# Altium schematic symbol library Schlib.SchLib: 87 symbols
Pins are listed as number, name and electrical type; pins without a type are passive.

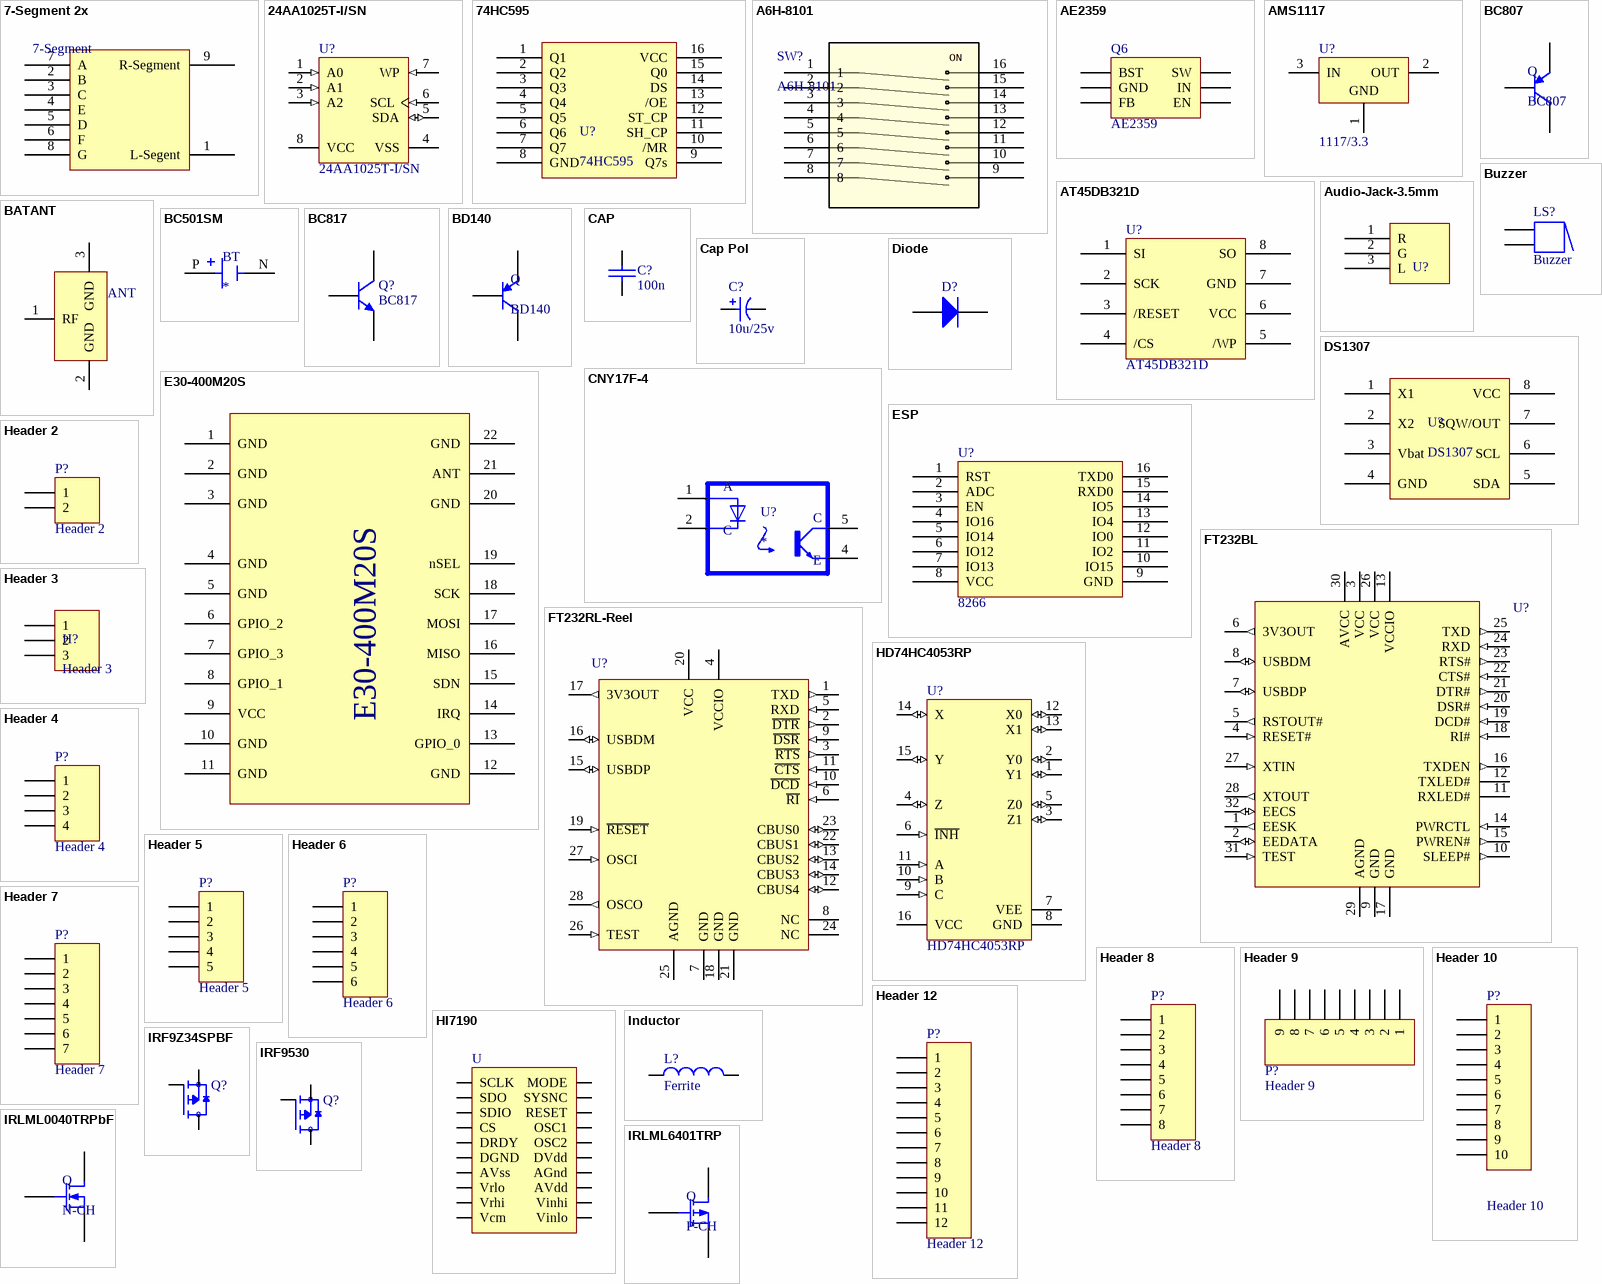
[diagram p0: symbols 7-Segment 2x to IRLML6401TRP]

## 7-Segment 2x
designator 7-Segment, comment 2x 7-Segment  (value not drawn)
footprint 7-Segment 2x
pins: 1 L-Segent, 2 B, 3 C, 4 E, 5 D, 6 F, 7 A, 8 G, 9 R-Segment

## 24AA1025T-I/SN
designator U?
1 Mbit, 400kHz, 1.7V, 8-Pin SOIC 150mil, Industrial Temperature, Tape and Reel; Published: 2-Dec-2009; DatasheetVersion: revF, Oct-2008; PackageVersion: revBB, Aug-2009; PackageReference: SOIC-SN8; Publisher: Altium Limited; PackageDescription: 8-Lead Plastic Small Outline (SN) - Narrow, 3.90mm Body [SOIC]; Supplier 1: Digi-Key; Supplier Part Number 1: 24AA1025T-I/SNTR-ND; Supplier 2: Digi-Key; Supplier Part Number 2: 24AA1025T-I/SNCT-ND; Supplier 3: Digi-Key; Supplier Part Number 3: 24AA1025T-I/SNDKR-ND; Code_JEDEC: MS-012; Code_IPC: SOIC127P600-8; ComponentLink1Description: Datasheet; ComponentLink1URL: http://ww1.microchip.com/downloads/en/DeviceDoc/21941F.pdf; ComponentLink2Description: Packaging Specification; ComponentLink2URL: http://www.microchip.com/stellent/groups/techpub_sg/documents/packagingspec/en012702.pdf; ComponentLink3Description: Microchip.com Home; ComponentLink3URL: http://www.microchip.com/
footprint SO8_M
pins: 1 A0 (in), 2 A1 (in), 3 A2 (in), 4 VSS (power), 5 SDA (io), 6 SCL (in), 7 WP (in), 8 VCC (power)

## 74HC595
designator U?
8-bit shift register
footprint SO-16_N (16-Pin Small Outline Integrated Circuit 1.27 mm Pitch, IPC Medium Density)
pins: 1 Q1, 2 Q2, 3 Q3, 4 Q4, 5 Q5, 6 Q6, 7 Q7, 8 GND, 9 Q7s, 10 /MR, 11 SH_CP, 12 ST_CP, 13 /OE, 14 DS, 15 Q0, 16 VCC

## A6H-8101
designator SW?
No Description Available; Manufacturer_Name: Omron; Copyright: Copyright (C) 2025 Ultra Librarian. All rights reserved.; Manufacturer_Part_Number: A6H-8101; RefDes: RefDes; Type: Type
footprint SW-8
pins: 1, 2, 3, 4, 5, 6, 7, 8, 9, 10, 11, 12, 13, 14, 15, 16
text: ON

## AE2359
designator Q6
Header, 3-Pin, Dual row; LatestRevisionDate: 17-Jul-2002; LatestRevisionNote: Re-released for DXP Platform.; Publisher: Altium Limited
footprint PRTR5V
pins: 1 BST, 2 GND, 3 FB, 4 EN, 5 IN, 6 SW

## AMS1117
designator U?, comment 1117/3.3
Positive-Voltage Regulator; Note: Pin 2 is electrically connected to TAB.; Published: 15-Apr-2002; DatasheetVersion: Jul-2000; PackageVersion: Oct-1994; PackageReference: PK03; Publisher: Altium Limited; PackageDescription: SOT-89; Body 4.6 x 4.25 mm, inc. leads (LxW max); Code_JEDEC: TO-243-AA; Code_IPC: SOT 89; ComponentLink1Description: Manufacturer Link; ComponentLink1URL: http://www.ti.com/; ComponentLink2Description: Datasheet; ComponentLink2URL: http://www-s.ti.com/sc/ds/ua78l05a.pdf
footprint SOT-223 (SOT223, 4-Leads, Body 6.50x7.00mm (avg), Pitch 2.30mm, IPC Medium Density)
pins: 1 GND (power), 2 OUT (power), 3 IN (power)

## AT45DB321D
designator U?
footprint SOIC-8 208MIL WIDE (SOIC, 8-Leads, Body 5.28x5.28mm, Pitch 1.27mm, IPC Medium Density)
pins: 1 SI, 2 SCK, 3 /RESET, 4 /CS, 5 /WP, 6 VCC, 7 GND, 8 SO

## Audio-Jack-3.5mm
designator U?
footprint microphone (simcard)
pins: 1 R, 2 G, 3 L

## BATANT
designator ANT, comment ANT  (value not drawn)
footprint SMA-KWE-M (Connector; RF Coaxial, MCX, Thru-Hole; 5 Position; Right-Angle)
footprint U.FL SMD Connector
pins: 1 RF, 2 GND, 3 GND

## BC501SM
designator BT
BATTERY HOLDER COIN 12MM SMD; MP: BC501SM; MF: MPD; Availability: Unavailable; SnapEDA_Link: https://www.snapeda.com/parts/BC501SM/MPD/view-part/4389112/?ref=snap; Price: None; Package: None; Value: *
footprint BAT_BC501SM
pins: N NEG, P POS

## BC807
designator Q
footprint SOT-23A_M
pins: 1 B, 2 E, 3 C

## BC817
designator Q?
NPN General-purpose Transistor; Published: 17-Sep-2003; LatestRevisionDate: 12-Dec-2006; LatestRevisionNote: IPC-7351 Footprint Added.; DatasheetVersion: Jun-1999; PackageVersion: May-1999; PackageReference: SOT23; Publisher: Altium Limited; PackageDescription: 3-Pin SOT-23 Package 0.95 mm Pitch, 2.3 mm Lead Span; ComponentLink1Description: Manufacturer Link; ComponentLink1URL: http://www.semiconductors.philips.com/; ComponentLink2Description: Datasheet; ComponentLink2URL: http://www.semiconductors.philips.com/acrobat/datasheets/BC817_BC817W_BC337_5.pdf
footprint SOT-23A_M (SOT23, 3-Leads, Body 2.9x1.3mm, Pitch 0.95mm, Lead Span 2.3mm, IPC Low Density)
pins: 1 B, 2 E, 3 C

## BD140
designator Q
footprint BD140
pins: 1 E, 2 C, 3 B

## Buzzer
designator LS?
Magnetic Transducer Buzzer; Published: 24-Mar-1999; LatestRevisionDate: 17-Dec-2003; LatestRevisionNote: Schematic revised, PCB Footprint replaced.; DatasheetVersion: 17-Dec-2003; PackageReference: ABSM-1574; Publisher: Altium Limited; PackageDescription: Magnetic Transducer Buzzer; ComponentLink1Description: Manufacturer Link; ComponentLink1URL: http://www.megastar.com/linecard/buzzmode/index.php
footprint buzzer - dip
pins: 1, 1A, 2, 2A
1 alternate drawing of the same symbol

## CAP
designator C?, comment 100n
Capacitor
footprint 805
footprint 1206
pins: 1, 2

## Cap Pol
designator C?, comment 10u/25v
Polarized Capacitor (Radial); Published: 8-Jun-2000; LatestRevisionDate: 17-Jul-2002; LatestRevisionNote: Re-released for DXP Platform.; PackageReference: RB7.6-15; Publisher: Altium Limited; Value: 10u/25v
footprint CAP SMD - 7*7-10*10
footprint CAP SMD_5*5
footprint CAP13
footprint CAP SMD (ABSM-1574)
footprint CAP tan (ABSM-1574)
pins: 1, 2
1 alternate drawing of the same symbol

## CNY17F-4
designator U?
MP: CNY17F-4; Package: None; Price: None; Value: *; Availability: Unavailable
footprint DIP-6
pins: 1 A, 2 C, 4 E, 5 C`

## Diode
designator D?
Default Diode; Published: 8-Jun-2000; LatestRevisionDate: 17-Jul-2002; LatestRevisionNote: Re-released for DXP Platform.; PackageVersion: Sep-1996; PackageReference: SMC; Publisher: Altium Limited; PackageDescription: DO-214-AB/SMC; 2 C-Bend Leads; Body 7.9 x 5.9 mm, inc. leads (LxW); Code_JEDEC: DO-214-AB
footprint SMA (Molded Diode, 2-Leads, Body 4.30x2.60mm, IPC Medium Density)
footprint SOD-80 MiniMELF (Molded Diode, 2-Leads, Body 3.40x1.50mm, IPC Medium Density)
footprint SOD-123 (SODFL, 2-Leads, Body 1.70x3.50mm, IPC Medium Density)
pins: 1 A, 2 K

## DS1307
designator U?
footprint SO8_M
pins: 1 X1, 2 X2, 3 Vbat, 4 GND, 5 SDA, 6 SCL, 7 SQW/OUT, 8 VCC

## E30-400M20S
designator U?, comment E49-900M20S  (value not drawn)
Manufacturer: EBYTE(亿佰特); Add into BOM: yes; Symbol: E49-900M20S; Device: E49-900M20S; LCSC Part Name: CMT2300A无线收发模块433m类CC1101/SI4432/SI4438数传模块; Supplier Part: C2965510; Manufacturer Part: E49-900M20S; Supplier Footprint: SMD,14x20mm; JLCPCB Part Class: Extended Part; Datasheet: https://atta.szlcsc.com/upload/public/pdf/source/20220120/C585D3888F759C1BC45E5BB801EA7BED.pdf; Supplier: LCSC; Convert to PCB: yes
footprint E30-400M20S
pins: 1 GND, 2 GND, 3 GND, 4 GND, 5 GND, 6 GPIO_2, 7 GPIO_3, 8 GPIO_1, 9 VCC, 10 GND, 11 GND, 12 GND, 13 GPIO_0, 14 IRQ, 15 SDN, 16 MISO, 17 MOSI, 18 SCK, 19 nSEL, 20 GND, 21 ANT, 22 GND

## ESP
designator U?, comment 8266
footprint *ESP-07S_ESP-07S(Primary)
pins: 1 RST, 2 ADC, 3 EN, 4 IO16, 5 IO14, 6 IO12, 7 IO13, 8 VCC, 9 GND, 10 IO15, 11 IO2, 12 IO0, 13 IO4, 14 IO5, 15 RXD0, 16 TXD0

## FT232BL
designator U?
USB UART Asynchronous Serial Data Transfer Chip, LQFP-32, Pb-Free; Published: 6-Oct-2005; LatestRevisionDate: 13-Apr-2006; LatestRevisionNote: IPC-7351 Footprint Added.; DatasheetVersion: ver 1.8, Dec-2005; PackageVersion: 2004; PackageReference: LQFP-32; Publisher: Altium Limited; PackageDescription: 32-Pin Thin Quad Flat Pack 0.8 mm Pitch; ComponentLink1Description: Manufacturer Link; ComponentLink1URL: http://www.ftdichip.com/Products/ICs/FT232B.htm; ComponentLink2Description: Datasheet; ComponentLink2URL: http://www.ftdichip.com/Support/Documents/DataSheets/ICs/DS_FT232BL.pdf
footprint LQFP-32_N (Thin QFP, 32-Leads, Body 7x7mm, Pitch 0.8mm, IPC Medium Density)
footprint LQFP-32_L (Thin QFP, 32-Leads, Body 7x7mm, Pitch 0.8mm, IPC High Density)
footprint LQFP-32_M (Thin QFP, 32-Leads, Body 7x7mm, Pitch 0.8mm, IPC Low Density)
pins: 1 EESK (out), 2 EEDATA (io), 3 VCC (power), 4 RESET# (in), 5 RSTOUT# (out), 6 3V3OUT (out), 7 USBDP (io), 8 USBDM (io), 9 GND (power), 10 SLEEP# (out), 11 RXLED# (oc), 12 TXLED# (oc), 13 VCCIO (power), 14 PWRCTL (in), 15 PWREN# (out), 16 TXDEN (out), 17 GND (power), 18 RI# (in), 19 DCD# (in), 20 DSR# (in), 21 DTR# (out), 22 CTS# (in), 23 RTS# (out), 24 RXD (in), 25 TXD (out), 26 VCC (power), 27 XTIN (in), 28 XTOUT (out), 29 AGND (power), 30 AVCC (power), 31 TEST (in), 32 EECS (io)

## FT232RL-Reel
designator U?
USB UART Asynchronous Serial Data Transfer Chip, SSOP-28, Tape and Reel; Published: 19-Aug-2010; DatasheetVersion: ver 2.07, Jul-2010; PackageVersion: 2010; PackageReference: SSOP-28; Publisher: Altium Limited; PackageDescription: 28-Pin Small Outline Package 0.65 mm Pitch; ComponentLink1Description: Manufacturer Link; ComponentLink1URL: http://www.ftdichip.com/Products/ICs/FT232R.htm; ComponentLink2Description: Datasheet; ComponentLink2URL: http://www.ftdichip.com/Support/Documents/DataSheets/ICs/DS_FT232R.pdf
footprint SSOP-28_N (SOP, 28-Leads, Body 10.2x5.3mm, Pitch 0.65mm, IPC Medium Density)
footprint SSOP-28_L (SOP, 28-Leads, Body 10.2x5.3mm, Pitch 0.65mm, IPC High Density)
footprint SSOP-28_M (SOP, 28-Leads, Body 10.2x5.3mm, Pitch 0.65mm, IPC Low Density)
pins: 1 TXD (out), 2 ~{DTR} (out), 3 ~{RTS} (out), 4 VCCIO (power), 5 RXD (in), 6 ~{RI} (in), 7 GND (power), 8 NC, 9 ~{DSR} (in), 10 ~{DCD} (in), 11 ~{CTS} (in), 12 CBUS4 (io), 13 CBUS2 (io), 14 CBUS3 (io), 15 USBDP (io), 16 USBDM (io), 17 3V3OUT (out), 18 GND (power), 19 ~{RESET} (in), 20 VCC (power), 21 GND (power), 22 CBUS1 (io), 23 CBUS0 (io), 24 NC, 25 AGND (power), 26 TEST (in), 27 OSCI (in), 28 OSCO (out)

## HD74HC4053RP
designator U?
Triple 2-Channel Analog Multiplexers / Demultiplexers; Published: 10-Feb-2010; DatasheetVersion: Rev.2.00, Mar-2006; PackageVersion: Sep-2005; PackageReference: PRSP0016DG-A; Publisher: Altium Limited; PackageDescription: 16-Pin Plastic Small Outline Integrated Circuit, 9.9 x 3.95 mm Body, 1.27 mm Pitch; Code_JEITA: P-SOP16-3.95x9.9-1.27; Code_IPC: SOIC127P600-16; ComponentLink1Description: Manufacturer Link; ComponentLink1URL: http://sg.renesas.com/fmwk.jsp?cnt=hd74hc_root.jsp&fp=/products/standard_ic/general_purpose_logic/5v_standard_logic/hd74hc/; ComponentLink2Description: Datasheet; ComponentLink2URL: http://documentation.renesas.com/eng/products/logic/rej03d0649_hd74hc4052_4053ds.pdf; ComponentLink3Description: Packaging Specification; ComponentLink3URL: http://sg.renesas.com/media/products/common_info/package/pdf/ic/code/prsp0016dg_a.pdf
footprint PRSP0016DG-A_N
footprint PRSP0016DG-A_L (SOIC, 16-Leads, Body 9.9x3.95mm, Pitch 1.27mm, IPC High Density)
footprint PRSP0016DG-A_M (SOIC, 16-Leads, Body 9.9x3.95mm, Pitch 1.27mm, IPC Low Density)
pins: 1 Y1 (io), 2 Y0 (io), 3 Z1 (io), 4 Z (io), 5 Z0 (io), 6 ~{INH} (in), 7 VEE (power), 8 GND (power), 9 C (in), 10 B (in), 11 A (in), 12 X0 (io), 13 X1 (io), 14 X (io), 15 Y (io), 16 VCC (power)

## Header 2
designator P?
Header, 2-Pin; LatestRevisionDate: 17-Jul-2002; LatestRevisionNote: Re-released for DXP Platform.; Publisher: Altium Limited
footprint JST B2B-PH-K
footprint JST XH B2B-XH-A
footprint HDR1X2
pins: 1, 2

## Header 3
designator H?
Header 3-pin
footprint HDR1X3
pins: 1, 2, 3

## Header 4
designator P?
Header, 4-Pin; LatestRevisionDate: 17-Jul-2002; LatestRevisionNote: Re-released for DXP Platform.; Publisher: Altium Limited
footprint JST XH B4B-XH-A
footprint JST B4B-PH-K
footprint JST XH B4B-XH-R
footprint HDR1X4
pins: 1, 2, 3, 4

## Header 5
designator P?
Header, 5-Pin; LatestRevisionDate: 17-Jul-2002; LatestRevisionNote: Re-released for DXP Platform.; Publisher: Altium Limited
footprint JST XH B5B-XH-A
footprint HDR1X5
pins: 1, 2, 3, 4, 5

## Header 6
designator P?
Header, 6-Pin; LatestRevisionDate: 17-Jul-2002; LatestRevisionNote: Re-released for DXP Platform.; Publisher: Altium Limited
footprint JST XH B6B-XH-A
footprint HDR1X6
pins: 1, 2, 3, 4, 5, 6

## Header 7
designator P?
Header, 7-Pin; LatestRevisionDate: 17-Jul-2002; LatestRevisionNote: Re-released for DXP Platform.; Publisher: Altium Limited
footprint HDR1X7
pins: 1, 2, 3, 4, 5, 6, 7

## Header 8
designator P?
Header, 8-Pin; LatestRevisionDate: 17-Jul-2002; LatestRevisionNote: Re-released for DXP Platform.; Publisher: Altium Limited
footprint JST XH B8B-XH-A
footprint HDR1X8
pins: 1, 2, 3, 4, 5, 6, 7, 8

## Header 9
designator P?
Header, 9-Pin; LatestRevisionDate: 17-Jul-2002; LatestRevisionNote: Re-released for DXP Platform.; Publisher: Altium Limited
footprint JST XH B9B-XH-A
footprint HDR1X9
pins: 1, 2, 3, 4, 5, 6, 7, 8, 9

## Header 10
designator P?
Header, 10-Pin; LatestRevisionDate: 17-Jul-2002; LatestRevisionNote: Re-released for DXP Platform.; Publisher: Altium Limited
footprint JST XH B10B-XH-A
footprint JST B10B-PH-K
footprint HDR1X10
pins: 1, 2, 3, 4, 5, 6, 7, 8, 9, 10

## Header 12
designator P?
Header, 12-Pin; LatestRevisionDate: 17-Jul-2002; LatestRevisionNote: Re-released for DXP Platform.; Publisher: Altium Limited
footprint HDR1X12
pins: 1, 2, 3, 4, 5, 6, 7, 8, 9, 10, 11, 12

## HI7190
designator U
pins: 1 SCLK, 2 SDO, 3 SDIO, 4 CS, 5 DRDY, 6 DGND, 7 AVss, 8 Vrlo, 9 Vrhi, 10 Vcm, 11 Vinlo, 12 Vinhi, 13 AVdd, 14 AGnd, 15 DVdd, 16 OSC2, 17 OSC1, 18 RESET, 19 SYSNC, 20 MODE

## Inductor
designator L?, comment Ferrite
Inductor; Code_IEC: 1005; Value: 10mH; Published: 8-Jun-2000; LatestRevisionDate: 29-May-2009; LatestRevisionNote: IPC-7351 Footprint Added.; PackageReference: 0402-A; Publisher: Altium Limited; PackageDescription: Chip Inductor; Code_JEITA: 0402
footprint INDUCTOR SMD (Inductor)
footprint INDUCTORSMD - DUP
footprint InductorSMD
footprint 1206
footprint 805
footprint Inductor 5 * 5 (Power Inductor, 2-Leads,Laird, TYS50402R2N-10)
footprint Inductor 4.5 * 4 (Power Inductor, 2-Leads, Bourns, SRN4018-220M)
footprint Inductor 3.5*3.5 (Power Inductors, 2 Leads, Bourns, SRN3015-2R2M)
footprint InductorSMD
pins: 1, 2

## IRF9Z34SPBF
designator Q?  (value not drawn)
P-Channel 60V 18A _Tc_ 3.7W _Ta_, 88W _Tc_ Surface Mount D2PAK; MF: Vishay; SnapEDA_Link: https://www.snapeda.com/parts/IRF9Z34SPBF/Vishay%20Siliconix/view-part/390212/?ref=snap; Price: None; MP: IRF9Z34SPBF; Value: *; Availability: Unavailable; Package: D2PAK Vishay
footprint D2PAK
pins: 1 G, 3 S, 4 D

## IRF9530
designator Q?  (value not drawn)
P-Channel 60V 18A _Tc_ 3.7W _Ta_, 88W _Tc_ Surface Mount D2PAK; MF: Vishay; MP: IRF9Z34SPBF; SnapEDA_Link: https://www.snapeda.com/parts/IRF9Z34SPBF/Vishay%20Siliconix/view-part/390212/?ref=snap; Price: None; Value: *; Availability: Unavailable; Package: D2PAK Vishay
footprint TO220
pins: 1 G, 2 D, 3 S

## IRLML0040TRPbF
designator Q, comment N-CH
footprint SOT-23A_M
pins: 1 G, 2 S, 3 D

## IRLML6401TRP
designator Q, comment P-CH
footprint SOT-23A_M
pins: 1 G, 2 S, 3 D

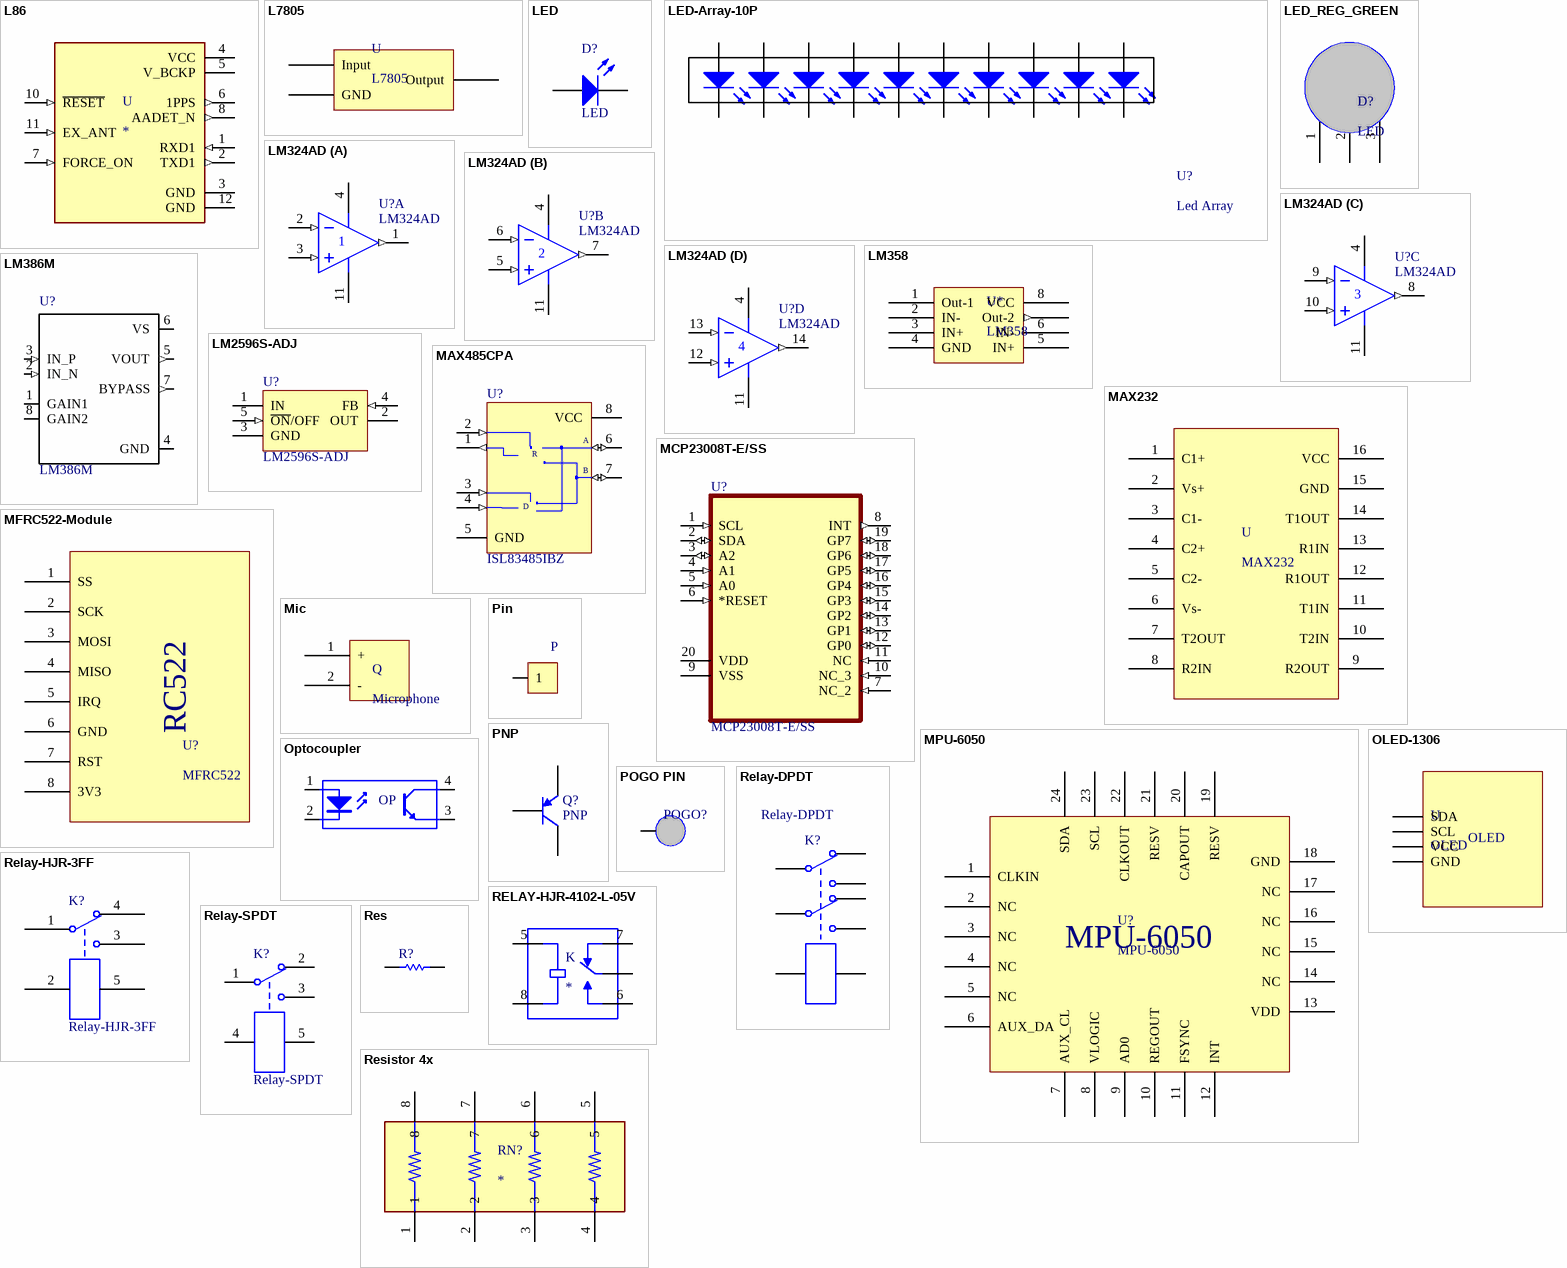
[diagram p1: symbols L86 to Resistor 4x]

## L86
designator U
L86 is an ultra-compact GNSS POT _Patch on Top_ module with an embedded 18.4mm Ã— 18.4mm Ã— 4.0mm patch antenna and utilizes the MediaTek new generation GNSS chipset MT3333 that achieves the perfect performance; MF: Quectel; Availability: Unavailable; SnapEDA_Link: https://www.snapeda.com/parts/L86/Quectel/view-part/4388456/?ref=snap; MP: L86; Price: None; Package: PowerSFN-8 Quectel; Value: *
footprint XCVR_L86
pins: 1 RXD1 (in), 2 TXD1 (out), 3 GND, 4 VCC (power), 5 V_BCKP (power), 6 1PPS (out), 7 FORCE_ON (in), 8 AADET_N (out), 10 ~{RESET} (in), 11 EX_ANT (in), 12 GND

## L7805
designator U
footprint TO220
pins: 1 Input, 2 GND, 3 Output

## LED
designator D?
Typical RED, GREEN, YELLOW, AMBER GaAs LED; Published: 8-Jun-2000; LatestRevisionDate: 17-Jul-2002; LatestRevisionNote: Re-released for DXP Platform.; PackageVersion: Feb-2002; PackageReference: 3.2X1.6X1.1; Publisher: Altium Limited; PackageDescription: SM LED; 2 Flat Leads
footprint LED 3mm 3D (Connector; Header; 2 Position)
footprint LED 0603_1608 GREEN (Chip Diode, 2-Leads, Body 1.60x0.80mm, IPC Medium Density)
footprint LED 0603_1608 RED (Chip Diode, 2-Leads, Body 1.60x0.80mm, IPC Medium Density)
footprint LED 0805_2012 BLUE (Chip Diode, 2-Leads, Body 2.00x1.25mm, IPC Medium Density)
pins: 1 A, 2 K

## LED-Array-10P
designator U?, comment Led Array
footprint LED-Array 10-Pin
pins: 1 A, 2 K, 3 A, 4 K, 5 A, 6 K, 7 A, 8 K, 9 A, 10 K, 11 A, 12 K, 13 A, 14 K, 15 A, 16 K, 17 A, 18 K, 19 A, 20 K

## LED_REG_GREEN
designator D?, comment LED
footprint LED_RED_GREEN
pins: 1 RED, 2 Common, 3 Green

## LM324AD
designator U?
Quad Low-Power Operational Amplifier; Published: 17-Jul-2002; LatestRevisionDate: 13-Apr-2006; LatestRevisionNote: IPC-7351 Footprint Added.; DatasheetVersion: 1988; PackageVersion: 1991; PackageReference: 751A-02; Publisher: Altium Limited; PackageDescription: 14-Pin Small Outline Integrated Circuit 1.27 mm Pitch; Code_IPC: SOIC127P600-14; ComponentLink1Description: Manufacturer Link; ComponentLink1URL: http://www.onsemi.com/site/products/parametrics/0,4446,251,00.html; ComponentLink2Description: Datasheet; ComponentLink2URL: http://www.onsemi.com/pub/Collateral/LM324-D.PDF
footprint SO-14_N (14-Pin Small Outline Integrated Circuit 1.27 mm Pitch, IPC Medium Density)
pins on every part: 4 V+ (power), 11 V- (power)
part A pins: 1 OUT (out), 2 IN- (in), 3 IN+ (in)
part B pins: 5 IN+ (in), 6 IN- (in), 7 OUT (out)
part C pins: 8 OUT (out), 9 IN- (in), 10 IN+ (in)
part D pins: 12 IN+ (in), 13 IN- (in), 14 OUT (out)

## LM358
designator U*
footprint SO8_M
pins: 1 Out-1, 2 IN-, 3 IN+, 4 GND, 5 IN+, 6 IN-, 7 Out-2 (out), 8 VCC

## LM386M
designator U?
MP: LM386M-1/NOPB; MF: Texas Instruments; Price: None; Package: SOIC-8 Texas Instruments; Availability: Unavailable; SnapEDA_Link: https://www.snapeda.com/parts/LM386M-1/NOPB/Texas%20Instruments/view-part/?ref=snap; Value: *
footprint SO8_M (SOIC, 8-Leads, Body 4.9x3.9mm, Pitch 1.27mm, IPC Low Density)
pins: 1 GAIN1, 2 IN_N (in), 3 IN_P (in), 4 GND (power), 5 VOUT (out), 6 VS (power), 7 BYPASS (out), 8 GAIN2

## LM2596S-ADJ
designator U?
Simple Switcher Power Converter 150 kHz 3A Step Down Voltage Regulator; Note: Tab is connected to GND; Published: 15-Apr-2002; DatasheetVersion: Dec-1997; PackageReference: TS5B; Publisher: Altium Limited; PackageDescription: D2-PAK; 5 Leads; Body 14.4 (inc. leads) x 10.4 mm (LxW max); ComponentLink1Description: Manufacturer Link; ComponentLink1URL: http://www.national.com/; ComponentLink2Description: Datasheet; ComponentLink2URL: http://www.national.com/ds.cgi/LM/LM2596.pdf; ComponentLink3Description: URL Link1; ComponentLink3URL: http://www.national.com/pf/LM/LM2596.html
footprint *TO263-5
pins: 1 IN (power), 2 OUT (power), 3 GND (power), 4 FB (in), 5 ~{ON}/OFF (in)

## MAX232
designator U
footprint SO-16_N (16-Pin Small Outline Integrated Circuit 1.27 mm Pitch, IPC Medium Density)
footprint DW016_L (16-Pin Plastic Small Outline Integrated Circuit 1.27 mm Pitch, IPC High Density)
pins: 1 C1+, 2 Vs+, 3 C1-, 4 C2+, 5 C2-, 6 Vs-, 7 T2OUT, 8 R2IN, 9 R2OUT, 10 T2IN, 11 T1IN, 12 R1OUT, 13 R1IN, 14 T1OUT, 15 GND, 16 VCC

## MAX485CPA
designator U?, comment ISL83485IBZ
Low-Power, Slew-Rate-Limited RS-485/RS-422 Transceiver; Published: 16-Jan-2001; LatestRevisionDate: 29-May-2009; LatestRevisionNote: Component Body Added.; DatasheetVersion: Feb-1996; PackageVersion: RevB, 21-0043; PackageReference: PA8; Publisher: Altium Limited; PackageDescription: DIP, 8-Pin, Row Spacing 7.62 mm, Pitch 2.54 mm; Code_JEDEC: MS-001-AB; ComponentLink1Description: Manufacturer Link; ComponentLink1URL: http://www.maxim-ic.com/; ComponentLink2Description: Datasheet; ComponentLink2URL: http://pdfserv.maxim-ic.com/en/ds/MAX1487-MAX491.pdf
footprint SO8_M
pins: 1 RO (out), 2 ~{RE} (in), 3 DE (in), 4 DI (in), 5 GND (power), 6 A (io), 7 B (io), 8 VCC (power)
text: R; D

## MCP23008T-E/SS
designator U?
I/O Expander 8 IÂ²C 1.7MHz 20-SSOP; MF: Microchip; Package: SSOP-20 Microchip; MP: MCP23008T-E/SS; Price: None; Availability: Unavailable; Value: *; SnapEDA_Link: https://www.snapeda.com/parts/MCP23008T-E/SS/Microchip/view-part/1222714/?ref=snap
footprint SSOP-20
pins: 1 SCL (in), 2 SDA (io), 3 A2 (io), 4 A1 (in), 5 A0 (in), 6 *RESET (in), 7 NC_2 (in), 8 INT (out), 9 VSS, 10 NC_3 (in), 11 NC (in), 12 GP0 (io), 13 GP1 (io), 14 GP2 (io), 15 GP3 (io), 16 GP4 (io), 17 GP5 (io), 18 GP6 (io), 19 GP7 (io), 20 VDD (power)

## MFRC522-Module
designator U?, comment MFRC522
footprint MFRC522-Module
pins: 1 SS, 2 SCK, 3 MOSI, 4 MISO, 5 IRQ, 6 GND, 7 RST, 8 3V3
text: RC522

## Mic
designator Q, comment Microphone
footprint Mic-2m
pins: 1 +, 2 -

## MPU-6050
designator U?
footprint MPU-6050 (QFN, 24-Leads, Body 4.00x4.00mm, Pitch 0.50mm, Thermal Pad 2.60x2.60mm, IPC Medium Density)
pins: 1 CLKIN, 2 NC, 3 NC, 4 NC, 5 NC, 6 AUX_DA, 7 AUX_CL, 8 VLOGIC, 9 AD0, 10 REGOUT, 11 FSYNC, 12 INT, 13 VDD, 14 NC, 15 NC, 16 NC, 17 NC, 18 GND, 19 RESV, 20 CAPOUT, 21 RESV, 22 CLKOUT, 23 SCL, 24 SDA

## OLED-1306
designator U, comment OLED
footprint OLED-1306-128x64
pins: 1 SDA, 2 SCL, 3 VCC, 4 GND

## Optocoupler
designator OP
4-Pin Phototransistor Optocoupler; Published: 24-Mar-1999; LatestRevisionDate: 04-Mar-2005; LatestRevisionNote: Sch pins 3 & 4 Swapped.; DatasheetVersion: Nov-2003; PackageReference: DIP-4; Publisher: Altium Limited
footprint OPTO 4-PIN DIP
pins: 1 A "Anode", 2 K "Cathode", 3 E "Emitter", 4 C "Collector"

## Pin
designator P  (value not drawn)
footprint Pin
pins: 1

## PNP
designator Q?
PNP Bipolar Transistor; Published: 8-Jun-2000; LatestRevisionDate: 29-May-2009; LatestRevisionNote: IPC-7351 Footprint Added.; PackageVersion: Aug-1999; PackageReference: SOT-23B; Publisher: Altium Limited; PackageDescription: 3-Pin SOT-23 Package 0.95 mm Pitch, 2.4 mm Lead Span
footprint SOT-23A_M
pins: 1 C, 2 B, 3 E

## POGO PIN
designator POGO?  (value not drawn)
footprint POGO PIN
pins: 1

## Relay-DPDT
designator K?
Dual-Pole Dual-Throw Relay; Published: 24-Mar-1999; LatestRevisionDate: 17-Jul-2002; LatestRevisionNote: Re-released for DXP Platform.; PackageReference: DIP-P8; Publisher: Altium Limited; PackageDescription: Relay; 8 Leads
footprint REL8
pins: 1, 2, 3, 4, 5, 6, 7, 8

## Relay-HJR-3FF
designator K?
Single-Pole Dual-Throw Relay; Published: 24-Mar-1999; LatestRevisionDate: 17-Jul-2002; LatestRevisionNote: Re-released for DXP Platform.; PackageReference: MODULE5B; Publisher: Altium Limited
footprint REL5
pins: 1, 2, 3, 4, 5

## RELAY-HJR-4102-L-05V
designator K
MP: HJR-4102-L-05V; MF: Tianbo; Value: *; SnapEDA_Link: https://www.snapeda.com/parts/HJR-4102-L-05V/Tianbo/view-part/3661977/?ref=snap; Availability: Unavailable; Package: Package; Price: None
footprint RELAY_HJR-4102-L-05V
pins: 1 COM, 5 COIL1, 6 NO, 7 NC, 8 COIL2, 12 COM

## Relay-SPDT
designator K?
Single-Pole Dual-Throw Relay; Published: 24-Mar-1999; LatestRevisionDate: 17-Jul-2002; LatestRevisionNote: Re-released for DXP Platform.; PackageReference: MODULE5B; Publisher: Altium Limited
footprint REL6
pins: 1, 2, 3, 4, 5

## Res
designator R?
Resistor; Value: 1K; Published: 8-Jun-2000; LatestRevisionDate: 17-Jul-2002; LatestRevisionNote: Re-released for DXP Platform.; PackageReference: AXIAL-0.3; Publisher: Altium Limited; PackageDescription: Axial Device, Thru-Hole; 2 Leads; 0.3 in Pin Spacing
footprint 805
footprint 1206
footprint 1812
footprint 1806
pins: 1, 2

## Resistor 4x
designator RN?
10k Ohm Â±1% 62.5mW Power Per Element Isolated Resistor Network/Array Â±200ppm/Â°C 1206 (3216 Metric), Concave, Long Side Terminals; MF: CTS Components; MP: 742C0831002FP; SnapEDA_Link: https://www.snapeda.com/parts/742C0831002FP/CTS%20Components/view-part/1388766/?ref=snap; Check_prices: https://www.snapeda.com/parts/742C0831002FP/CTS%20Components/view-part/1388766/?ref=eda; Availability: Bad; Value: *; Price: None; Package: 0603 CTS Components
footprint Array 4x 0603
pins: 1, 2, 3, 4, 5, 6, 7, 8

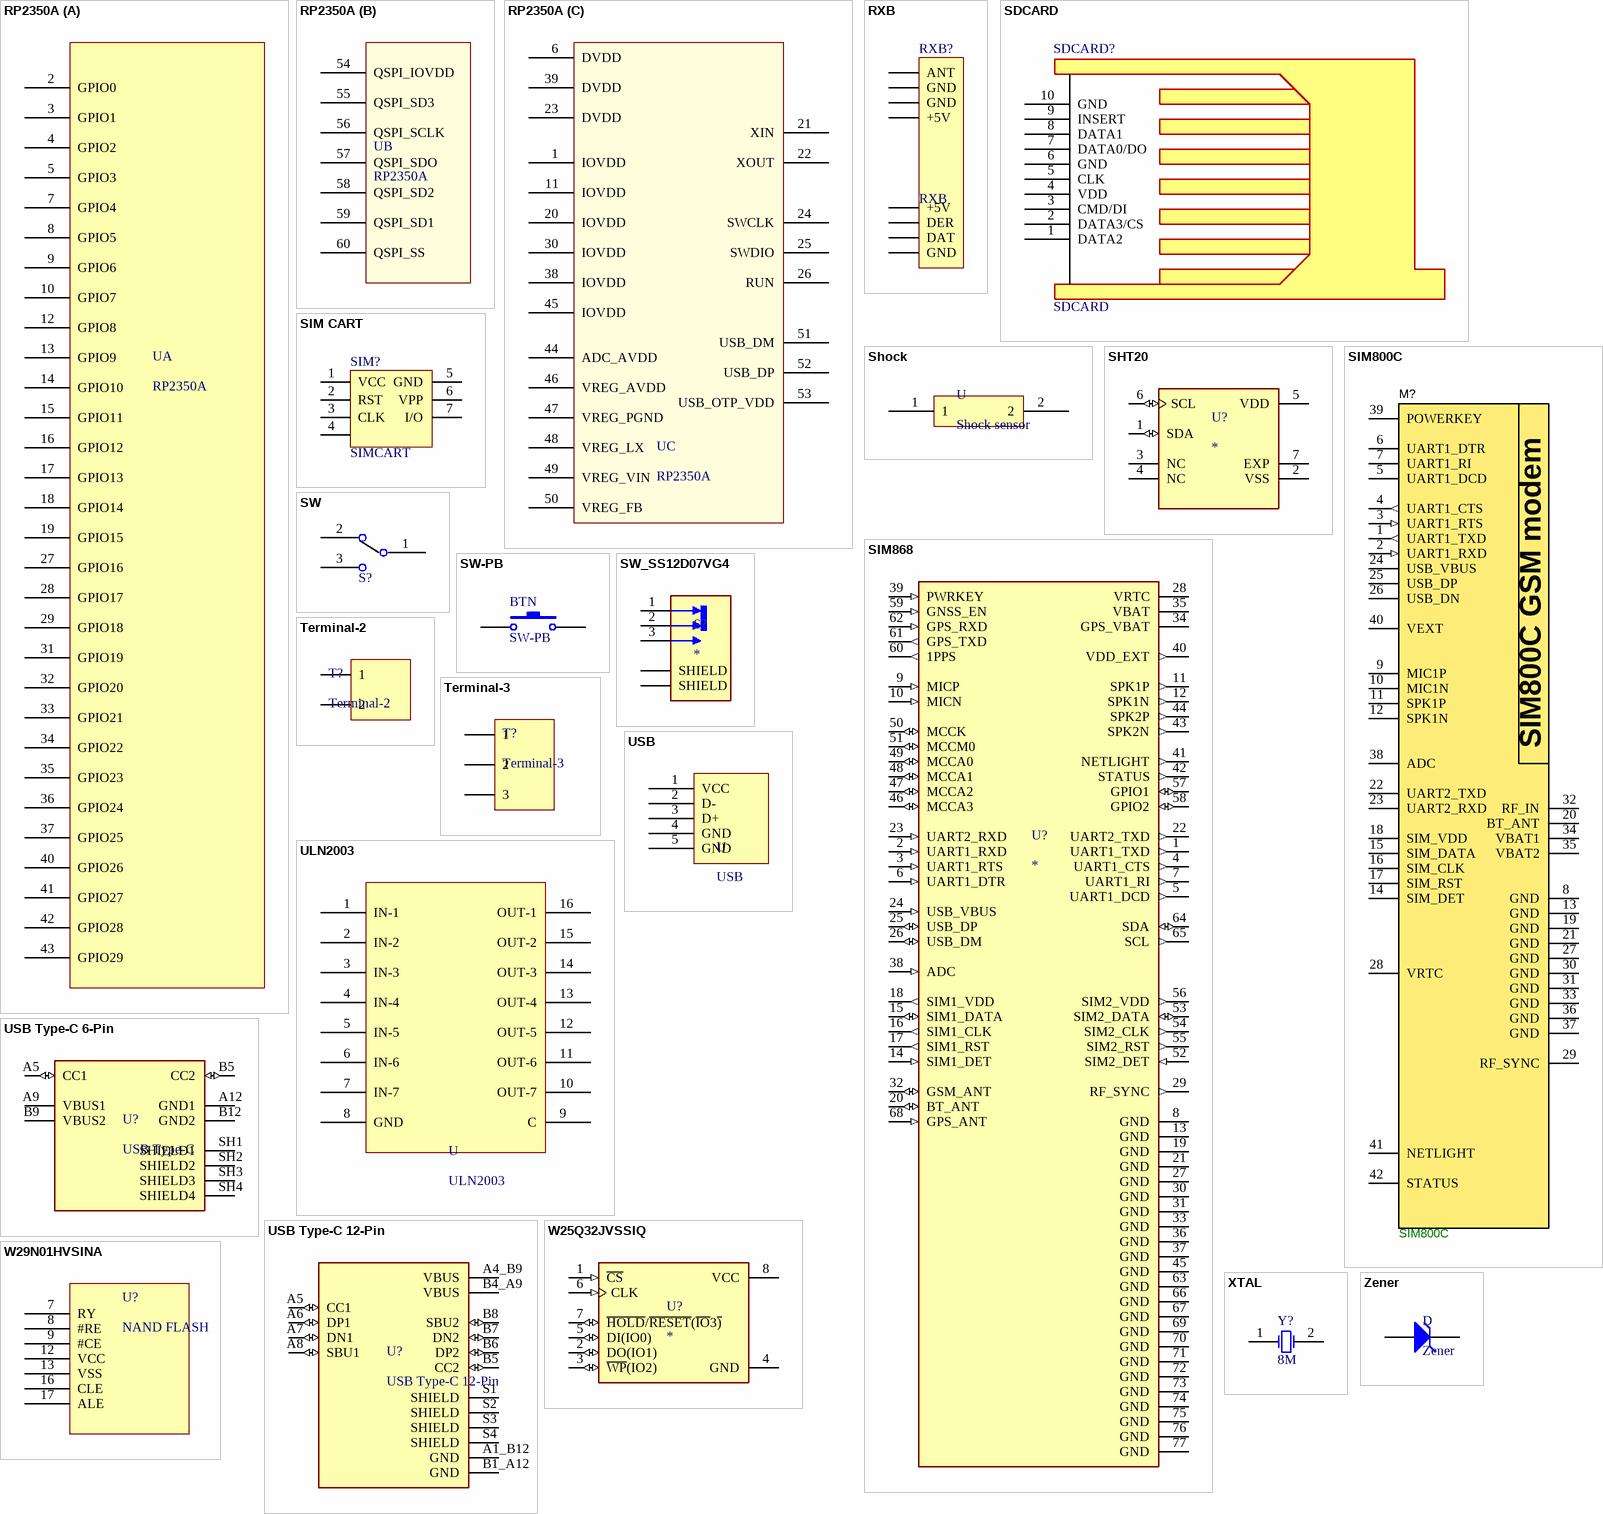
[diagram p2: symbols RP2350A to Zener]

## RP2350A
designator U
part A pins: 2 GPIO0, 3 GPIO1, 4 GPIO2, 5 GPIO3, 7 GPIO4, 8 GPIO5, 9 GPIO6, 10 GPIO7, 12 GPIO8, 13 GPIO9, 14 GPIO10, 15 GPIO11, 16 GPIO12, 17 GPIO13, 18 GPIO14, 19 GPIO15, 27 GPIO16, 28 GPIO17, 29 GPIO18, 31 GPIO19, 32 GPIO20, 33 GPIO21, 34 GPIO22, 35 GPIO23, 36 GPIO24, 37 GPIO25, 40 GPIO26, 41 GPIO27, 42 GPIO28, 43 GPIO29
part B pins: 54 QSPI_IOVDD, 55 QSPI_SD3, 56 QSPI_SCLK, 57 QSPI_SDO, 58 QSPI_SD2, 59 QSPI_SD1, 60 QSPI_SS
part C pins: 1 IOVDD, 6 DVDD, 11 IOVDD, 20 IOVDD, 21 XIN, 22 XOUT, 23 DVDD, 24 SWCLK, 25 SWDIO, 26 RUN, 30 IOVDD, 38 IOVDD, 39 DVDD, 44 ADC_AVDD, 45 IOVDD, 46 VREG_AVDD, 47 VREG_PGND, 48 VREG_LX, 49 VREG_VIN, 50 VREG_FB, 51 USB_DM, 52 USB_DP, 53 USB_OTP_VDD

## RXB
designator RXB?
LatestRevisionDate: 17-Jul-2002; LatestRevisionNote: Re-released for DXP Platform.; Publisher: Altium Limited
footprint RXB
pins: 1 ANT, 2 GND, 3 GND, 4 +5V, 5 +5V, 6 DER, 7 DAT, 8 GND

## SDCARD
designator SDCARD?
footprint SDCARD
pins: 1 DATA2, 2 DATA3/CS, 3 CMD/DI, 4 VDD, 5 CLK, 6 GND, 7 DATA0/DO, 8 DATA1, 9 INSERT, 10 GND

## Shock
designator U, comment Shock sensor
footprint Shock
pins: 1, 2

## SHT20
designator U?
SENSOR HUMID/TEMP 3V I2C 3% SMD; MF: Sensirion AG; MP: SHT20; SnapEDA_Link: https://www.snapeda.com/parts/SHT20/Sensirion/view-part/?ref=snap; Package: DFN-6 Sensirion; Value: *; Check_prices: https://www.snapeda.com/parts/SHT20/Sensirion/view-part/?ref=eda
footprint XDCR_SHT20
pins: 1 SDA (io), 2 VSS (power), 3 NC, 4 NC, 5 VDD (power), 6 SCL (io), 7 EXP

## SIM800C
designator M?
footprint SIM800C
pins: 1 UART1_TXD (out), 2 UART1_RXD (in), 3 UART1_RTS (in), 4 UART1_CTS (out), 5 UART1_DCD, 6 UART1_DTR, 7 UART1_RI, 8 GND, 9 MIC1P, 10 MIC1N, 11 SPK1P, 12 SPK1N, 13 GND, 14 SIM_DET, 15 SIM_DATA, 16 SIM_CLK, 17 SIM_RST, 18 SIM_VDD, 19 GND, 20 BT_ANT, 21 GND, 22 UART2_TXD, 23 UART2_RXD, 24 USB_VBUS, 25 USB_DP, 26 USB_DN, 27 GND, 28 VRTC, 29 RF_SYNC, 30 GND, 31 GND, 32 RF_IN, 33 GND, 34 VBAT1, 35 VBAT2, 36 GND, 37 GND, 38 ADC, 39 POWERKEY, 40 VEXT, 41 NETLIGHT, 42 STATUS
text: SIM800C GSM modem

## SIM868
designator U?
SIM868 GNSS, GSM RF mikroBUSâ„¢ Clickâ„¢ Platform Evaluation Expansion Board; MF: MikroElektronika; Check_prices: https://www.snapeda.com/parts/SIM868/MikroElektronika/view-part/?ref=eda; Value: *; Availability: Not in stock; MP: SIM868; Price: None; Package: None; SnapEDA_Link: https://www.snapeda.com/parts/SIM868/MikroElektronika/view-part/?ref=snap
footprint XCVR_SIM868
pins: 1 UART1_TXD (out), 2 UART1_RXD (in), 3 UART1_RTS (in), 4 UART1_CTS (out), 5 UART1_DCD (out), 6 UART1_DTR (in), 7 UART1_RI (out), 8 GND (power), 9 MICP (in), 10 MICN (in), 11 SPK1P (out), 12 SPK1N (out), 13 GND (power), 14 SIM1_DET (in), 15 SIM1_DATA (io), 16 SIM1_CLK (out), 17 SIM1_RST (out), 18 SIM1_VDD (out), 19 GND (power), 20 BT_ANT (io), 21 GND (power), 22 UART2_TXD (out), 23 UART2_RXD (in), 24 USB_VBUS (in), 25 USB_DP (io), 26 USB_DM (io), 27 GND (power), 28 VRTC (power), 29 RF_SYNC (out), 30 GND (power), 31 GND (power), 32 GSM_ANT (io), 33 GND (power), 34 GPS_VBAT (power), 35 VBAT (power), 36 GND (power), 37 GND (power), 38 ADC (in), 39 PWRKEY (in), 40 VDD_EXT (out), 41 NETLIGHT (out), 42 STATUS (out), 43 SPK2N (out), 44 SPK2P (out), 45 GND (power), 46 MCCA3 (io), 47 MCCA2 (io), 48 MCCA1 (io), 49 MCCA0 (io), 50 MCCK (io), 51 MCCM0 (io), 52 SIM2_DET (in), 53 SIM2_DATA (io), 54 SIM2_CLK (out), 55 SIM2_RST (out), 56 SIM2_VDD (out), 57 GPIO1 (io), 58 GPIO2 (io), 59 GNSS_EN (in), 60 1PPS (out), 61 GPS_TXD (out), 62 GPS_RXD (in), 63 GND (power), 64 SDA (io), 65 SCL (out), 66 GND (power), 67 GND (power), 68 GPS_ANT (in), 69 GND (power), 70 GND (power), 71 GND (power), 72 GND (power), 73 GND (power), 74 GND (power), 75 GND (power), 76 GND (power), 77 GND (power)

## SIM CART
designator SIM?, comment SIMCART
footprint simcard-auto (simcard)
footprint SIMCARDS
footprint SIMCARD-PRESS (simcard)
footprint simcards nano
footprint SIMCARD MICRO
footprint SIMCARD MICRO 7-PIN
pins: 1 VCC, 2 RST, 3 CLK, 4, 5 GND, 6 VPP, 7 I/O

## SW
designator S?  (value not drawn)
MP: EG1213; MF: E-Switch; Package: None; Availability: Unavailable; SnapEDA_Link: https://www.snapeda.com/parts/EG1213/E-Switch/view-part/?ref=snap; Price: None; Value: *
footprint SW_EG1213
footprint SW3PIN (DIP 13*6mm)
footprint SW_SS12D07VG4
footprint SW_RIGHT (FSMRA6JH)
pins: 1, 2, 3

## SW-PB
designator BTN
Switch; Published: 24-Mar-1999; LatestRevisionDate: 17-Jul-2002; LatestRevisionNote: Re-released for DXP Platform.; PackageReference: SPST-2; Publisher: Altium Limited; PackageDescription: Switch; 2 Leads
footprint PUSH_2PIN - DUPLICATE4
pins: 1, 2

## SW_SS12D07VG4
designator S?
Push Slide Switch; MF: Shouhan; MP: SS12D07VG4; SnapEDA_Link: https://www.snapeda.com/parts/SS12D07VG4/Shouhan/view-part/5844111/?ref=snap; Value: *; Check_prices: https://www.snapeda.com/parts/SS12D07VG4/Shouhan/view-part/5844111/?ref=eda; Package: Package; Availability: Unavailable; Price: None
footprint SW_SS12D07VG4
pins: 1, 2, 3, S1 SHIELD, S2 SHIELD

## Terminal-2
designator T?
footprint T-2PIN-5.08m
footprint Phonix-2R
pins: 1, 2

## Terminal-3
designator T?
footprint T-3Pin-5.08m
footprint Phonix-3R
pins: 1, 2, 3

## ULN2003
designator U
footprint SO-16_N (16-Pin Small Outline Integrated Circuit 1.27 mm Pitch, IPC Medium Density)
pins: 1 IN-1, 2 IN-2, 3 IN-3, 4 IN-4, 5 IN-5, 6 IN-6, 7 IN-7, 8 GND, 9 C, 10 OUT-7, 11 OUT-6, 12 OUT-5, 13 OUT-4, 14 OUT-3, 15 OUT-2, 16 OUT-1

## USB
designator U
footprint USB2-MINIB-5F
footprint FCI USB 61729-1011BLF
pins: 1 VCC, 2 D-, 3 D+, 4 GND, 5 GND

## USB Type-C 6-Pin
designator U?, comment USB Type-C
footprint USB Type C 6-Pin
pins: A5 CC1 (io), A9 VBUS1 (power), A12 GND1 (power), B5 CC2 (io), B9 VBUS2 (power), B12 GND2 (power), SH1 SHIELD1, SH2 SHIELD2, SH3 SHIELD3, SH4 SHIELD4

## USB Type-C 12-Pin
designator U?
footprint USB Type-C 12-Pin
pins: A1_B12 GND (power), A4_B9 VBUS (power), A5 CC1 (io), A6 DP1 (io), A7 DN1 (io), A8 SBU1 (io), B1_A12 GND (power), B4_A9 VBUS (power), B5 CC2 (io), B6 DP2 (io), B7 DN2 (io), B8 SBU2 (io), S1 SHIELD, S2 SHIELD, S3 SHIELD, S4 SHIELD

## W25Q32JVSSIQ
designator U?
FLASH - NOR Memory IC 32Mb (4M x 8) SPI - Quad I/O 133 MHz 8-SOIC; MF: Winbond; MP: W25Q32JVSSIQ; SnapEDA_Link: https://www.snapeda.com/parts/W25Q32JVSSIQ/Winbond+Electronics/view-part/?ref=snap; Package: SOIC-8 Winbond; Value: *; Check_prices: https://www.snapeda.com/parts/W25Q32JVSSIQ/Winbond+Electronics/view-part/?ref=eda
footprint SOIC127P790X216-8N
pins: 1 ~{CS} (in), 2 DO(IO1) (io), 3 ~{WP}(IO2) (io), 4 GND (power), 5 DI(IO0) (io), 6 CLK (in), 7 ~{HOLD}/~{RESET}(~{IO}3~{)} (io), 8 VCC (power)

## W29N01HVSINA
designator U?, comment NAND FLASH
footprint TSOPI48L12X20NORMAL_MAC
pins: 7 RY, 8 #RE, 9 #CE, 12 VCC, 13 VSS, 16 CLE, 17 ALE

## XTAL
designator Y?, comment 8M
Crystal Oscillator; Published: 8-Jun-2000; LatestRevisionDate: 17-Jul-2002; LatestRevisionNote: Re-released for DXP Platform.; PackageReference: R38; Publisher: Altium Limited; PackageDescription: Crystal, Thru-Hole; 2 Leads; Body 3.1 x 8.2 mm (Dia.xH)
footprint HC49/4H_SMX (Surface Mount Quartz Crystal; Body 13.4 (inc. leads) x 4.9 mm (LxW max))
footprint 32.768
pins: 1 OSC1, 2 OSC2

## Zener
designator D
footprint SOD-80 MiniMELF (Molded Diode, 2-Leads, Body 3.40x1.50mm, IPC Medium Density)
pins: 1 A, 2 K